# Altium schematic symbol library Mini-B USB.SchLib: 1 symbol
Pins are listed as number, name and electrical type; pins without a type are passive.

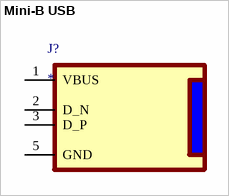
[diagram p0: symbol Mini-B USB]

## Mini-B USB
designator J?
MF: Samtec; MP: MUSB-05-F-B-SM-A; SnapEDA_Link: https://www.snapeda.com/parts/MUSB-05-F-B-SM-A/Samtec+Inc./view-part/?ref=snap; Package: None; Value: *; Check_prices: https://www.snapeda.com/parts/MUSB-05-F-B-SM-A/Samtec+Inc./view-part/?ref=eda
footprint Mini-B USB
pins: 1 VBUS, 2 D_N, 3 D_P, 5 GND